# Altium schematic symbol library BC846-B.SchLib: 1 symbol
Pins are listed as number, name and electrical type; pins without a type are passive.

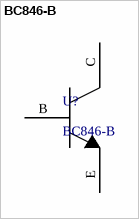
[diagram p0: symbol BC846-B]

## BC846-B
designator U?
TRANSISTORS (NPN/PNP) NPN 100MA 65V SOT-23 ROHS; Manufacturer: Foshan Blue Rocket Elec; ComponentLink1Description: Datasheet; ComponentLink1URL: https://datasheet.lcsc.com/szlcsc/BLUE-ROCKET-BC846-B_C305476.pdf; MFR.Part #: BC846-B; LCSC Part #: C305476; Package: SOT-23-3
footprint PCBComponent_1
pins: B "TRANS NPN 45V 0.1A TO-92", C, E